# Altium footprint library Relays_EM.PcbLib: 1 footprints
Each footprint in its own frame and in the unit in brackets; x right, y up, seen from the top. Pads: shape width x height; smd on the part's side, far side on the other; paste and mask are expansions set on the pad; w line width, h text height; cw(c..) or ccw(c..) is an arc to the next point about the centre after c.
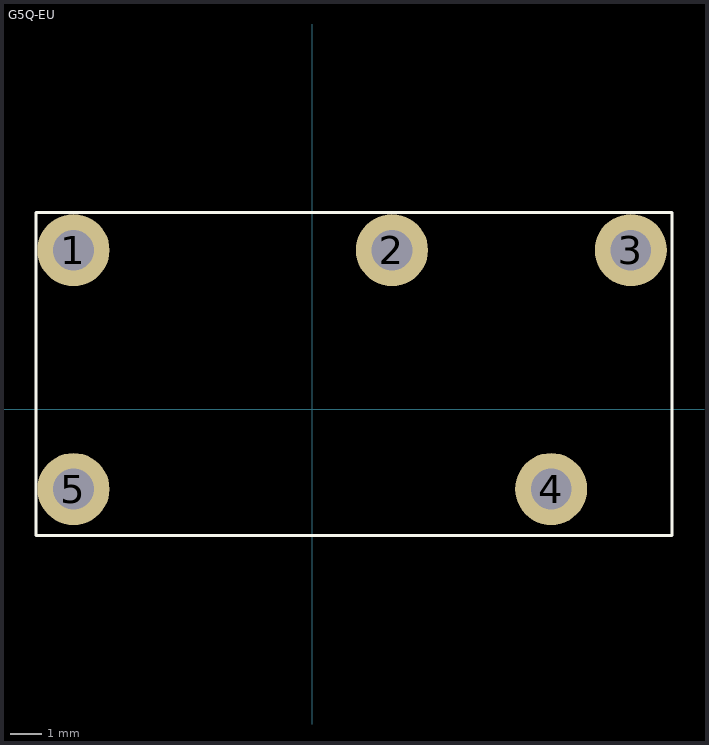
[diagram p0: the footprint, top view; thin cyan lines are the x and y axes]

## G5Q-EU [mm] "G5Q-EU Relays footprint"
height 16
pads (5):
  round 2.3 hole 1.3: 1(-7.62,5.08) 2(2.54,5.08) 3(10.16,5.08) 4(7.62,-2.54) 5(-7.62,-2.54)
Top Overlay:
  lines w0.1: -8.82,-4.02 -8.82,6.28 11.48,6.28 11.48,-4.02 -8.82,-4.02